# Altium integrated library ON Semi Signal Management Analog-to-Digital Converters (ADC).IntLib: 1 symbol
Pins are listed as number, name and electrical type; pins without a type are passive.

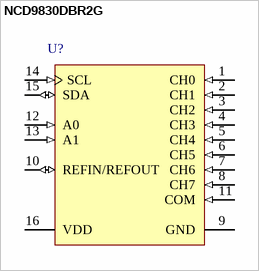
[diagram p0: symbol NCD9830DBR2G]

## NCD9830DBR2G
designator U?
8-Bit, 8-Channel ADC with I2C Serial Interface, -40 to 125 degC, 16-Pin TSSOP, Pb-Free, Tape and Reel; Manufacturer: On Semiconductor; PartNumber: NCD9830DBR2G; Resolution (Bits): 8; DatasheetVersion: Rev. 3; PackageVersion: Rev. B, 10/2006; PackageReference: TSSOP-16-948F-01; PackageDescription: 16-Pin Small Outline Package, Body 5 x 4.4 mm, Pitch 0.65 mm; Supplier 1: Newark; Supplier Part Number 1: 97W6168; Supplier 2: Mouser; Supplier Part Number 2: 863-NCD9830DBR2G; Control Interface: I2C; Packing: Tape and Reel; RoHS: TRUE; Mounting Technology: Surface Mount; ComponentLink1Description: Manufacturer URL; ComponentLink1URL: http://www.onsemi.com/; ComponentLink2Description: Datasheet; ComponentLink2URL: http://www.onsemi.com/pub_link/Collateral/NCD9830-D.PDF; ComponentLink3Description: Package Specification; ComponentLink3URL: http://www.onsemi.com/pub_link/Collateral/948F-01.PDF
footprint ONSC-TSSOP-16-948F-01_V (SOP, 16-Leads, Body 5.1x4.5mm, Pitch 0.65mm)
pins: 1 CH0 (in) "Analog Input.", 2 CH1 (in) "Analog Input.", 3 CH2 (in) "Analog Input.", 4 CH3 (in) "Analog Input.", 5 CH4 (in) "Analog Input.", 6 CH5 (in) "Analog Input.", 7 CH6 (in) "Analog Input.", 8 CH7 (in) "Analog Input.", 9 GND (power) "Power Supply Ground.", 10 REFIN/REFOUT (io) "Internal 2.5 V reference or external reference input.", 11 COM (in) "Common to analog input channel (typically connected to GND).", 12 A0 (in) "Functions as an I2C address selection bit.", 13 A1 (in) "Functions as an I2C address selection bit.", 14 SCL (in) "Serial Clock Input. Open?drain pin; needs a pull?up resistor.", 15 SDA (io) "I2C Serial Bi-directional Data Input/Output. Open?drain pin; needs a pull?up resistor.", 16 VDD (power) "Positive Supply Voltage. Bypass to ground with a 0.1 uF bypass capacitor."